# Altium footprint library SOP-4.PcbLib: 1 footprints
Each footprint in its own frame and in the unit in brackets; x right, y up, seen from the top. Pads: shape width x height; smd on the part's side, far side on the other; paste and mask are expansions set on the pad; w line width, h text height; cw(c..) or ccw(c..) is an arc to the next point about the centre after c.
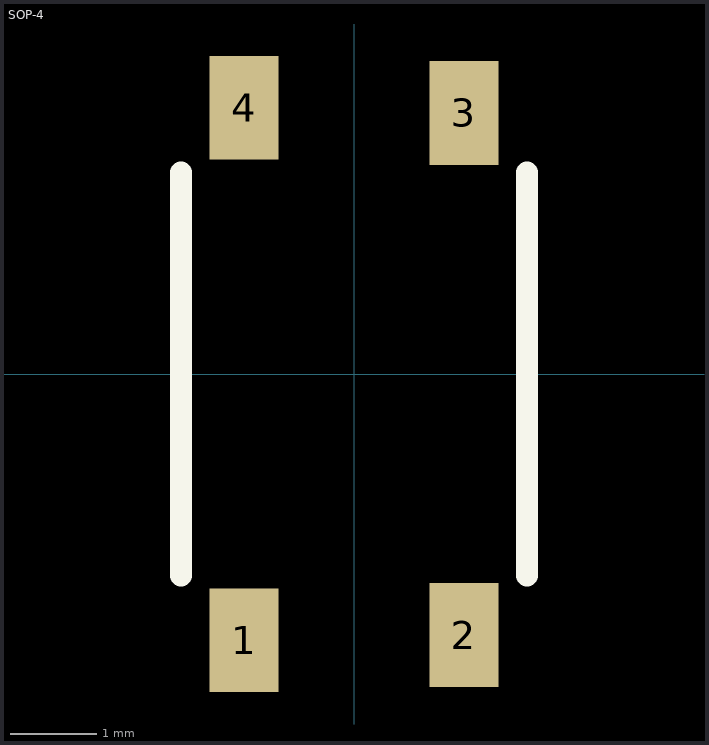
[diagram p0: the footprint, top view; thin cyan lines are the x and y axes]

## SOP-4 [mm]
pads (4):
  rect 0.8x1.2 smd: 1(-1.27,-3.075) 2(1.27,-3.015) 3(1.27,3.015) 4(-1.27,3.075)
Top Overlay:
  lines w0.254: -2,-2.325 -2,2.325 ; 2,-2.325 2,2.325
3D body "G3VM_21GR.step": height 2.1, standoff 0, extent -1.95,-3.5 1.95,3.5